# EAGLE library part AMP (library FaBo-Sound)
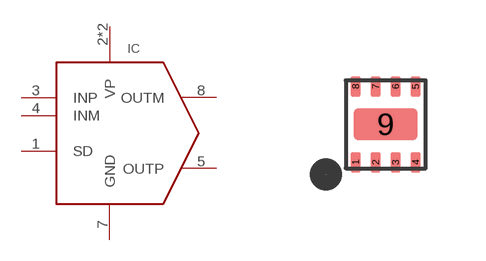
[diagram p3: symbol with the pads of NCP2820; footprint NCP2820]

Designator prefix IC

## AMP-NCP2820  [NCP2820]
1  SD
2  VP
3  INP
4  INM
5  OUTP
6  VP
7  GND
8  OUTM

## Footprint NCP2820 (pad centres in mm)
smd 0.25 x 0.5: 1 -0.75,-0.95; 2 -0.25,-0.95; 3 0.25,-0.95; 4 0.75,-0.95; 5 0.75,0.95; 6 0.25,0.95; 7 -0.25,0.95; 8 -0.75,0.95
smd 1.6 x 0.8: 9 0,0